# EAGLE library part NMOS2 (library kblom)
Dual MOS FET nmos
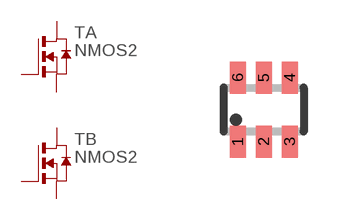
[diagram p11: symbol with the pads of SOT363; footprint SOT363]

Designator prefix T; gates A=N_MOS2D B=N_MOS2D

## NMOS2-BSS138DW (FARNELL: 1713832)  [SOT363]
1  A:S  pas
2  A:G  pas
3  A:D  pas
4  B:S  pas
5  B:G  pas
6  B:D  pas

## Footprint SOT363 (pad centres in mm)
Small Outline Transistor; 6 leads
smd 0.4 x 0.8: 1 -0.65,-0.8; 2 0,-0.8; 3 0.65,-0.8; 4 0.65,0.8; 5 0,0.8; 6 -0.65,0.8